# Altium footprint library Additional.PcbLib: 1 footprints
Each footprint in its own frame and in the unit in brackets; x right, y up, seen from the top. Pads: shape width x height; smd on the part's side, far side on the other; paste and mask are expansions set on the pad; w line width, h text height; cw(c..) or ccw(c..) is an arc to the next point about the centre after c.
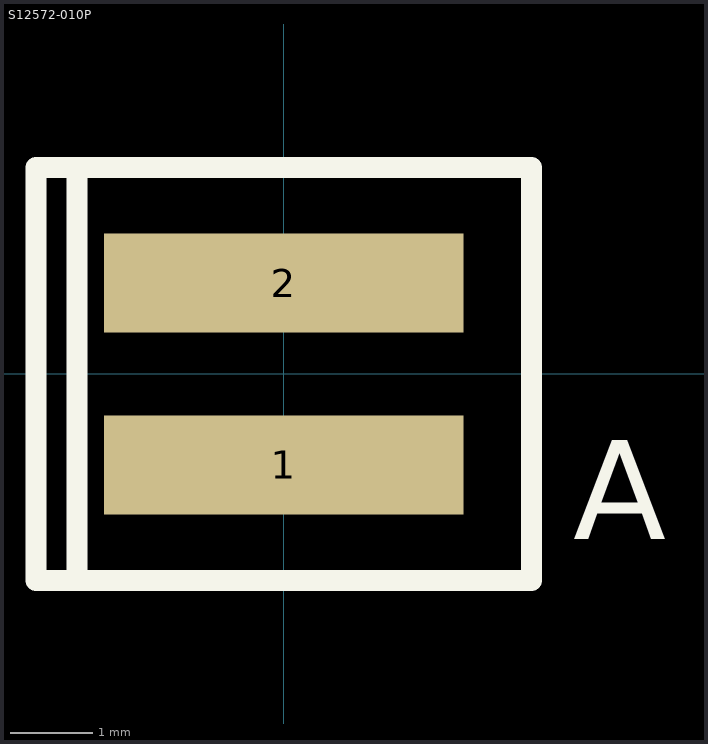
[diagram p0: the footprint, top view; thin cyan lines are the x and y axes]

## S12572-010P [mm]
pads (2):
  rect 4.35x1.2 smd: 1(0,-1.1) 2(0,1.1)
Top Overlay:
  lines w0.254: -2.5,-2.5 -2.5,2.5 ; -3,-2.5 -3,2.5 3,2.5 3,-2.5 -3,-2.5
  text "A" at 3.5,-2 h1.2
3D body: height 1.5, standoff 0, extent -2.175,-1.925 2.175,1.925